# Altium integrated library 12V_IdealDiode_PowerSupply_v1.IntLib: 9 symbols
Pins are listed as number, name and electrical type; pins without a type are passive.

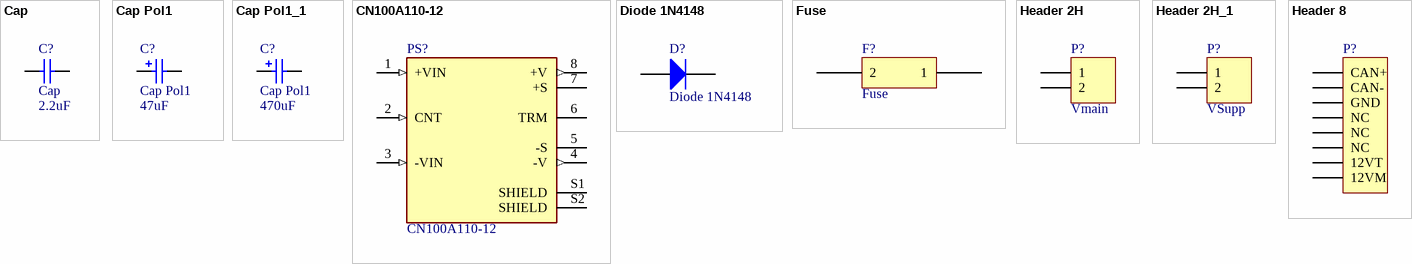
[diagram p0: symbols Cap to Header 8]

## Cap
designator C?  value 2.2uF
Ceramic Capacitor; Published: 8-Jun-2000; LatestRevisionDate: 17-Jul-2002; LatestRevisionNote: Re-released for DXP Platform.; PackageReference: RAD-0.3; Publisher: Altium Limited; PackageDescription: Radial Cap, Thru-Hole; 2 Leads; 0.3 in Pin Spacing
footprint RAD-0.3 (Radial Cap, Thru-Hole; 2 Leads; 0.3 in Pin Spacing)
simulation model CAP (Capacitor)
signal-integrity model Cap
pins: 1, 2

## Cap Pol1
designator C?  value 47uF
Polarized Capacitor (Radial); Published: 8-Jun-2000; LatestRevisionDate: 17-Jul-2002; LatestRevisionNote: Re-released for DXP Platform.; PackageReference: RB7.6-15; Publisher: Altium Limited; PackageDescription: Polarized Capacitor (Radial); 2 Leads
footprint RB7.6-15 (Polarized Capacitor (Radial); 2 Leads)
simulation model CAP (Capacitor)
signal-integrity model Cap Pol
pins: 1, 2
1 alternate drawing of the same symbol

## Cap Pol1_1
designator C?, comment Cap Pol1  value 470uF
Polarized Capacitor (Radial); Published: 8-Jun-2000; LatestRevisionDate: 17-Jul-2002; LatestRevisionNote: Re-released for DXP Platform.; PackageReference: RB7.6-15; Publisher: Altium Limited; PackageDescription: Polarized Capacitor (Radial); 2 Leads
footprint RB7.6-15 (Polarized Capacitor (Radial); 2 Leads)
simulation model CAP (Capacitor)
signal-integrity model Cap Pol
pins: 1, 2
1 alternate drawing of the same symbol

## CN100A110-12
designator PS?
Isolated Module DC DC Converter 1 Output 12V - - 8.4A 60V - 160V Input; MF: TDK-Lambda Americas Inc; Price: None; Availability: In Stock; Check_prices: https://www.snapeda.com/parts/CN100A110-12/TDK-Lambda+Americas+Inc/view-part/?ref=eda; Value: *; MP: CN100A110-12; Package: DIP-9 TDK-Lambda Americas Inc; Purchase-URL: https://pricing.snapeda.com/search/part/CN100A110-12/?ref=eda; SnapEDA_Link: https://www.snapeda.com/parts/CN100A110-12/TDK-Lambda+Americas+Inc/view-part/?ref=snap
footprint CONV_CN100A110-12
pins: 1 +VIN (in), 2 CNT (in), 3 -VIN (in), 4 -V (out), 5 -S, 6 TRM, 7 +S, 8 +V (out), S1 SHIELD, S2 SHIELD

## Diode 1N4148
designator D?
High Conductance Fast Diode; Published: 8-Jun-2000; LatestRevisionDate: 17-Jul-2002; LatestRevisionNote: Re-released for DXP Platform.; DatasheetVersion: 1997; PackageReference: DO-35; Publisher: Altium Limited; PackageDescription: Diode, Axial; Body 3.8 x 1.9 mm (LxDia. max), Lead Dia. 0.53 mm (max); Code_JEDEC: DO-204-AH; ComponentLink1Description: Manufacturer Link; ComponentLink1URL: http://www.fairchildsemi.com/; ComponentLink2Description: Datasheet; ComponentLink2URL: http://www.fairchildsemi.com/ds/1N%2F1N4148.pdf
footprint DO-35 (Diode, Axial; Body 3.8 x 1.9 mm (LxDia. max), Lead Dia. 0.53 mm (max))
simulation model 1N4148 (DIODE)
signal-integrity model 1N4148
pins: 1 A, 2 K

## Fuse
designator F?
pins: 1, 2

## Header 2H
designator P?, comment Vmain
Header, 2-Pin, Right Angle; LatestRevisionDate: 17-Jul-2002; LatestRevisionNote: Re-released for DXP Platform.; Publisher: Altium Limited
footprint HDR1X2H (Connector; Header; 2 Position; Right Angle)
signal-integrity model Connector
pins: 1, 2

## Header 2H_1
designator P?, comment VSupp
Header, 2-Pin, Right Angle; LatestRevisionDate: 17-Jul-2002; LatestRevisionNote: Re-released for DXP Platform.; Publisher: Altium Limited
footprint HDR1X2H (Connector; Header; 2 Position; Right Angle)
signal-integrity model Connector
pins: 1, 2

## Header 8
designator P?  (value not drawn)
Header, 8-Pin; LatestRevisionDate: 17-Jul-2002; LatestRevisionNote: Re-released for DXP Platform.; Publisher: Altium Limited
footprint HDR1X8 (Connector; Header; 8 Position)
signal-integrity model Connector
pins: 1 CAN+, 2 CAN-, 3 GND, 4 NC, 5 NC, 6 NC, 7 12VT, 8 12VM